# Altium footprint library THU_VIEN_1.PcbLib: 69 footprints (part 1 of 5)
Each footprint in its own frame and in the unit in brackets; x right, y up, seen from the top. Pads: shape width x height; smd on the part's side, far side on the other; paste and mask are expansions set on the pad; w line width, h text height; cw(c..) or ccw(c..) is an arc to the next point about the centre after c.
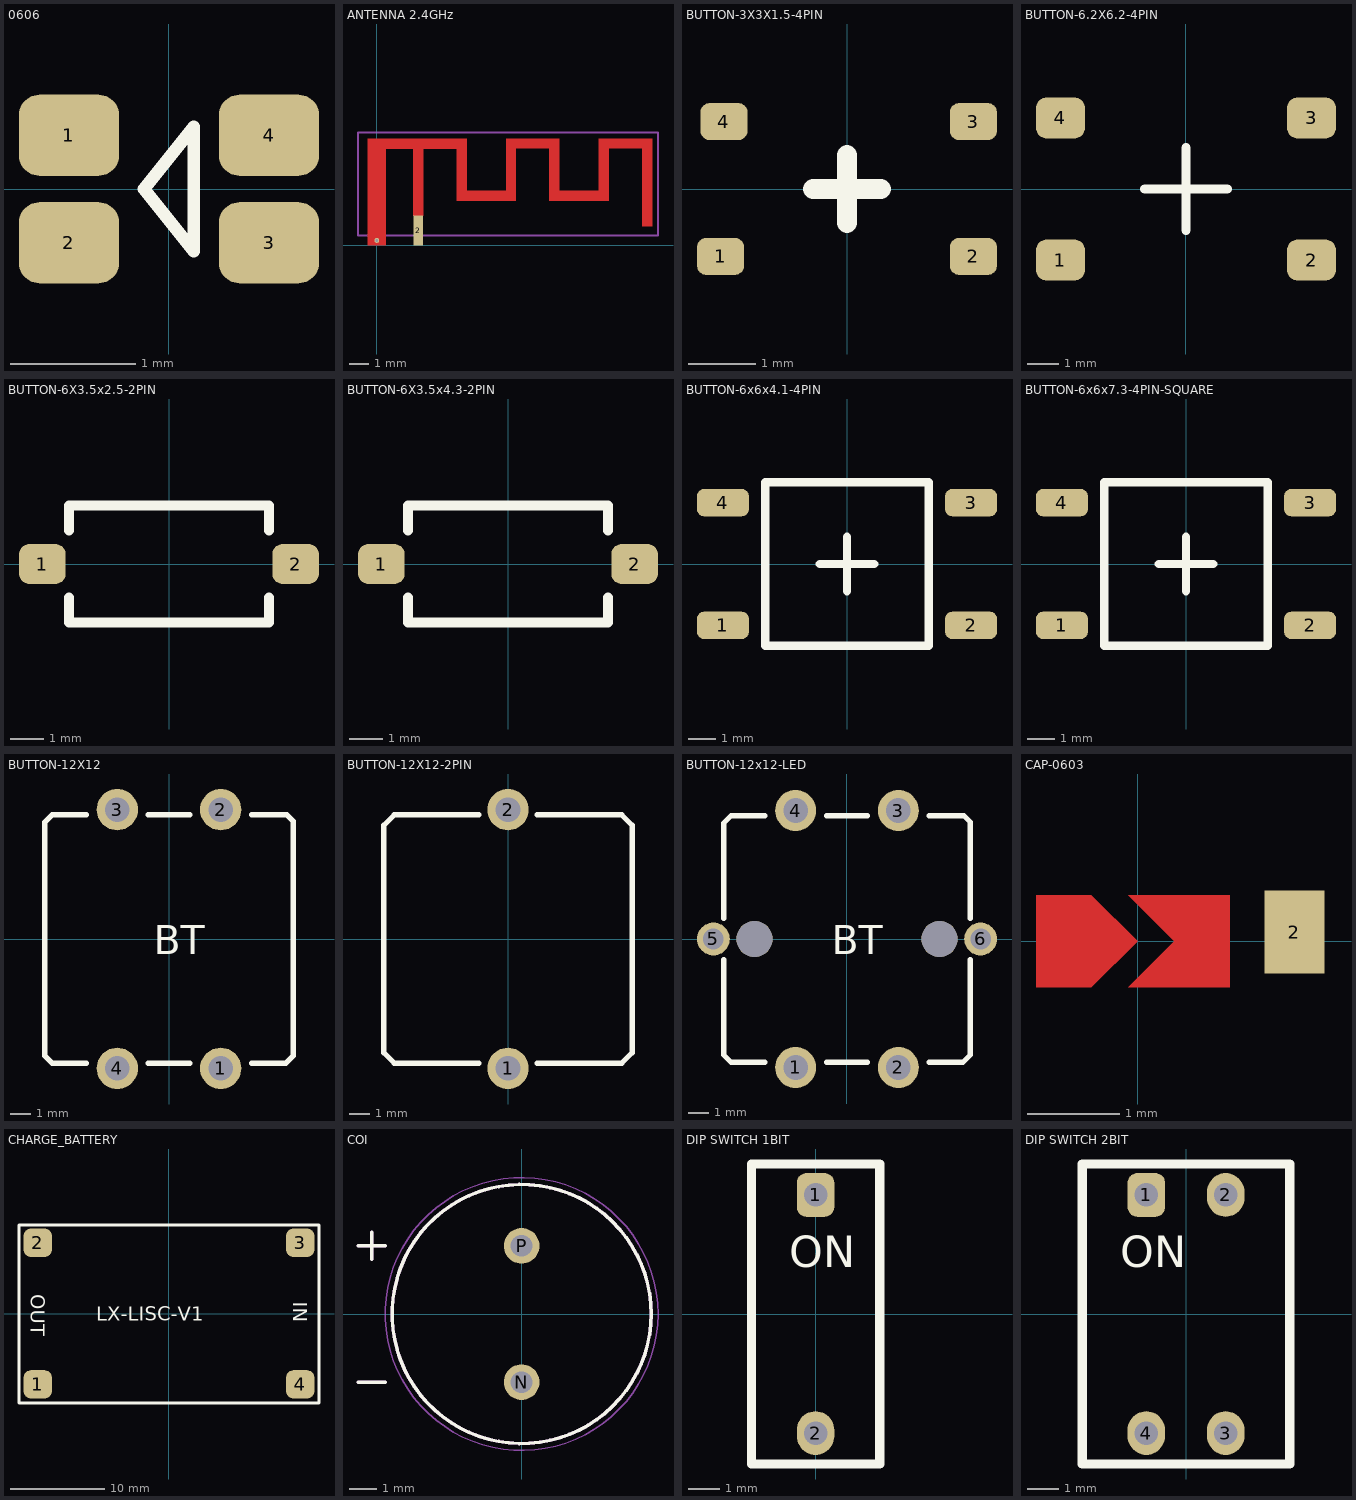
[diagram p0: the footprints below, top view; thin cyan lines are the x and y axes]

## 0606 [mm]
pads (4):
  rrect50% 0.8x0.65 smd: 1(-0.8,0.43) 2(-0.8,-0.43) 3(0.8,-0.43) 4(0.8,0.43)
Top Overlay:
  lines w0.1: -0.2,0 0.2,0.5 0.2,-0.5 -0.2,0
3D body "LED 0606 bi-color.stp": height 0.7, standoff -0.01, extent -0.8,-0.851 0.8,0.851

## ANTENNA 2.4GHz [mm]
pads (2):
  round 0.25 hole 0.15 mask+0: 1(0,0.25)
  rect 0.5x1.5 smd mask+0: 2(2.1,0.75)
Top Layer:
  region: -0.45,0 -0.45,5.41 4.55,5.41 4.55,2.77 6.55,2.77 6.55,5.41 9.25,5.41 9.25,2.77 11.25,2.77 11.25,5.41 13.95,5.41 13.95,0.97 13.45,0.97 13.45,4.91 11.75,4.91 11.75,2.27 8.75,2.27 8.75,4.91 7.05,4.91 7.05,2.27 4.05,2.27 4.05,4.9 2.35,4.9 2.35,1.5 1.85,1.5 1.85,4.9 0.45,4.9 0.45,0
Mechanical 15:
  lines w0.1: -0.95,0.5 -0.95,5.71 14.25,5.71 14.25,0.5 -0.95,0.5

## BUTTON-3X3X1.5-4PIN [mm]
pads (4):
  rrect50% 0.7x0.55 smd: 1(-1.875,-1) 2(1.875,-1) 3(1.875,1) 4(-1.825,1)
Top Overlay:
  lines w0.3: -0.5,0 0.5,0 ; 0,-0.5 0,0.5
3D body "xb-3x3x1_5.stp": height 1.5, standoff 0, extent -2,-1.675 2,1.675

## BUTTON-6.2X6.2-4PIN [mm] "SMD"
pads (4):
  rrect50% 1.55x1.3 smd: 1(-3.975,-2.25) 2(3.975,-2.25) 3(3.975,2.25) 4(-3.975,2.25)
Top Overlay:
  lines w0.3: -1.3,0 1.3,0 ; 0,-1.3 0,1.3
3D body "User Library-222CMVABR.STEP": height 2.5, standoff 0, extent -4,-3.2 4,3.2

## BUTTON-6X3.5x2.5-2PIN [mm]
pads (2):
  rrect50% 1.4x1.2 smd mask+0.1: 1(-3.8,0) 2(3.8,0)
Top Overlay:
  lines w0.3: -3,-1 -3,-1.75 3,-1.75 3,-1 ; -3,1 -3,1.75 3,1.75 3,1
3D body "G73 button.STEP": height 2.5, standoff 0, extent -4,-1.75 4,1.75

## BUTTON-6X3.5x4.3-2PIN [mm]
pads (2):
  rrect50% 1.4x1.2 smd mask+0.1: 1(-3.8,0) 2(3.8,0)
Top Overlay:
  lines w0.3: -3,-1 -3,-1.75 3,-1.75 3,-1 ; -3,1 -3,1.75 3,1.75 3,1
3D body "BUTTON-6X3.5x4.3-2PIN.step": height 4.3, standoff 0, extent -4,-1.75 4,1.75

## BUTTON-6x6x4.1-4PIN [mm]
pads (4):
  rrect50% 1.9x1 smd: 1(-4.55,-2.25) 2(4.55,-2.25) 3(4.55,2.25) 4(-4.55,2.25)
Top Overlay:
  lines w0.3: -1,0 1,0 ; 0,-1 0,1 ; -3,-3 3,-3 3,3 -3,3 -3,-3
3D body "TS6-SMT_H-4.3.step": height 4.3, standoff 0, extent -4,-3 4,3

## BUTTON-6x6x7.3-4PIN-SQUARE [mm]
pads (4):
  rrect50% 1.9x1 smd: 1(-4.55,-2.25) 2(4.55,-2.25) 3(4.55,2.25) 4(-4.55,2.25)
Top Overlay:
  lines w0.3: -1,0 1,0 ; 0,-1 0,1 ; -3,-3 -3,3 3,3 3,-3 -3,-3
3D body "Tactal Switch - SMD (6mm x 6mm x 7.3mm) - Square.stp": height 7.32, standoff 0, extent -4.42,-3.016 4.42,3.016

## BUTTON-12X12 [mm]
pads (4):
  round 2 hole 1.2: 1(2.5,-6.25) 2(2.5,6.25) 3(-2.5,6.25) 4(-2.5,-6.25)
Top Overlay:
  lines w0.254: -4,-6 -5.65,-6 -6,-5.65 -6,-1 -6,1 -6,5.65 -5.65,6 -4,6 ; -1,-6 1,-6 ; -1,6 1,6 ; 4,-6 5.65,-6 6,-5.65 6,-1 6,1 6,5.7 5.7,6 4,6
  text "BT" at -0.746,-0.746 h1.4
3D body "Tactal Switch - THRU(12mmx12mmx8mm)-Green.stp": height 7.87, standoff -3.05, extent -6.007,-6.708 6.007,6.708

## BUTTON-12X12-2PIN [mm]
pads (2):
  round 2 hole 1.2: 1(0,-6.25) 2(0,6.25)
Top Overlay:
  lines w0.254: -1.4,-6 -5.5,-6 -6,-5.5 -6,5.5 -5.5,6 -1.4,6 ; 1.4,-6 5.5,-6 6,-5.5 6,5.5 5.5,6 1.4,6

## BUTTON-12x12-LED [mm]
pads (8):
  round 2 hole 1.2: 1(-2.5,-6.25) 2(2.5,-6.25) 3(2.5,6.25) 4(-2.5,6.25)
  round 1.6 hole 1: 5(-6.5,0) 6(6.5,0)
  round 1.75 hole 1.75: ""(-4.5,0) ""(4.5,0)
Top Overlay:
  lines w0.254: -6,-1 -6,-5.65 -5.65,-6 -4,-6 ; -6,1 -6,5.65 -5.65,6 -4,6 ; -1,-6 1,-6 ; -1,6 1,6 ; 4,-6 5.65,-6 6,-5.65 6,-1 ; 4,6 5.7,6 6,5.7 6,1
  text "BT" at -0.746,-0.746 h1.4
3D body "Tactal Switch - THRU(12mmx12mm - Illuminated - Orange.stp": height 7.36, standoff -3.05, extent -7.582,-6.708 7.582,6.708

## CAP-0603 [mm]
pads (1):
  rect 0.65x0.9 smd: 2(1.7,0.1)
Top Layer:
  region: -1.1,0.5 -1.1,-0.5 -0.5,-0.5 0,0 -0.5,0.5
  region: 1,-0.5 1,0.5 -0.1,0.5 0.4,0 -0.1,-0.5

## CHARGE_BATTERY [mm]
pads (4):
  rrect50% 3x3 smd: 1(-14,-7.55) 2(-14,7.55) 3(14,7.55) 4(14,-7.55)
Top Overlay:
  lines w0.3: -16,-9.55 16,-9.55 16,9.45 15,9.45 -16,9.45 -16,-9.55
  text "LX-LISC-V1" at -7.746,-0.746 h1.52
  text "OUT" at -14.746,2.046 h1.52
  text "IN" at 13.254,1.246 h1.52

## COI [mm]
pads (2):
  round 1.308 hole 0.8: N(0,-2.5) P(0,2.5)
Top Overlay:
  circle w0.127: c0,0 r4.75
  lines w0.127: -6,-2.5 -5,-2.5 ; -6,2.5 -5,2.5 ; -5.5,2 -5.5,3
3D:
  circle w0.127: c0,0 r4.75
  lines w0.127: -6,-2.5 -5,-2.5 ; -6,2.5 -5,2.5 ; -5.5,2 -5.5,3
Mechanical 15:
  circle w0.05: c0,0 r5
3D body "step_temp.STEP": height 5.05, standoff -4.5, extent -4.75,-4.75 4.75,5.952

## DIP SWITCH 1BIT [mm]
pads (2):
  rrect50% 1.2x1.4 hole 0.75: 1(0,3.81)
  oval 1.2x1.4 hole 0.75: 2(0,-3.81)
Top Overlay:
  lines w0.3: 1.98,-4.8 -2.05,-4.8 -2.05,4.8 1.98,4.8 ; 2.05,-4.8 2.05,4.8
  text "ON" at -0.833,1.5 h1
3D body "DS1040-01 (DIP_switch).stp": height 6.8, standoff -3.85, extent -1.95,-4.95 2.05,4.95

## DIP SWITCH 2BIT [mm]
pads (4):
  rrect50% 1.2x1.4 hole 0.75: 1(-1.27,3.81)
  oval 1.2x1.4 hole 0.75: 2(1.27,3.81) 3(1.27,-3.81) 4(-1.27,-3.81)
Top Overlay:
  lines w0.3: -3.32,-4.8 3.32,-4.8 3.32,4.8 -3.32,4.8 -3.32,-4.8
  text "ON" at -2.103,1.5 h1
3D body "DS1040-02 (DIP_switch).stp": height 6.8, standoff -3.85, extent -3.27,-4.95 3.27,4.95